# Altium schematic symbol library Raspberry Pi 3.Schlib: 1 symbol
Pins are listed as number, name and electrical type; pins without a type are passive.

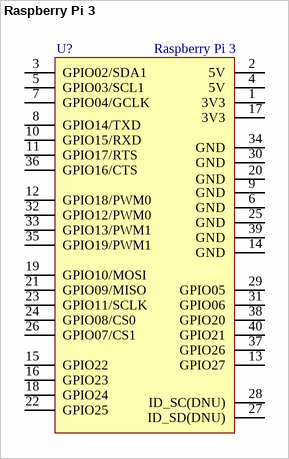
[diagram p0: symbol Raspberry Pi 3]

## Raspberry Pi 3
designator U?
40-pin connector for RaspberryPi3; Назначение: Одноплатный ПК; Наименование: Raspberry PI 3
footprint Raspberry Pi 3
pins: 1 3V3, 2 5V, 3 GPIO02/SDA1, 4 5V, 5 GPIO03/SCL1, 6 GND, 7 GPIO04/GCLK, 8 GPIO14/TXD, 9 GND, 10 GPIO15/RXD, 11 GPIO17/RTS, 12 GPIO18/PWM0, 13 GPIO27, 14 GND, 15 GPIO22, 16 GPIO23, 17 3V3, 18 GPIO24, 19 GPIO10/MOSI, 20 GND, 21 GPIO09/MISO, 22 GPIO25, 23 GPIO11/SCLK, 24 GPIO08/CS0, 25 GND, 26 GPIO07/CS1, 27 ID_SD(DNU), 28 ID_SC(DNU), 29 GPIO05, 30 GND, 31 GPIO06, 32 GPIO12/PWM0, 33 GPIO13/PWM1, 34 GND, 35 GPIO19/PWM1, 36 GPIO16/CTS, 37 GPIO26, 38 GPIO20, 39 GND, 40 GPIO21